# EAGLE library part PIC16F876A-X/SP-COMP-B (library lc-meter)
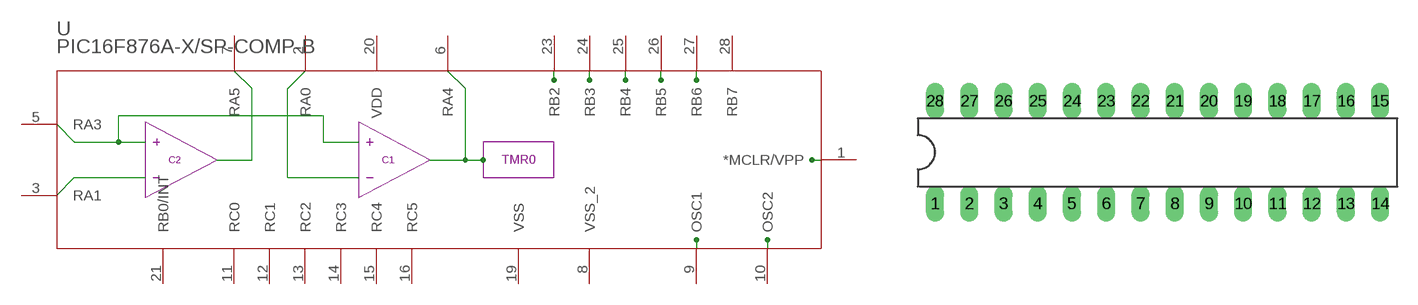
[diagram p4: symbol with the pads of DIL28-3; footprint DIL28-3]

Designator prefix -

## PIC16F876A-X/SP-COMP-B  [DIL28-3]
1  *MCLR/VPP  pas
2  RA0  pas
3  RA1  pas
5  RA3  pas
6  RA4  pas
7  RA5  pas
8  VSS_2  pas
9  OSC1  pas
10  OSC2  pas
11  RC0  pas
12  RC1  pas
13  RC2  pas
14  RC3  pas
15  RC4  pas
16  RC5  pas
19  VSS  pas
20  VDD  pas
21  RB0/INT  pas
23  RB2  pas
24  RB3  pas
25  RB4  pas
26  RB5  pas
27  RB6  pas
28  RB7  pas

## PIC16F876A-X/SP-COMP-B-A  [DIL28-3]

## Footprint DIL28-3 (pad centres in mm)
Dual In Line package type P
drill 0.813 long: 1 -16.51,-3.81; 2 -13.97,-3.81; 3 -11.43,-3.81; 4 -8.89,-3.81; 5 -6.35,-3.81; 6 -3.81,-3.81; 7 -1.27,-3.81; 8 1.27,-3.81; 9 3.81,-3.81; 10 6.35,-3.81; 11 8.89,-3.81; 12 11.43,-3.81; 13 13.97,-3.81; 14 16.51,-3.81; 15 16.51,3.81; 16 13.97,3.81; 17 11.43,3.81; 18 8.89,3.81; 19 6.35,3.81; 20 3.81,3.81; 21 1.27,3.81; 22 -1.27,3.81; 23 -3.81,3.81; 24 -6.35,3.81; 25 -8.89,3.81; 26 -11.43,3.81; 27 -13.97,3.81; 28 -16.51,3.81